# Altium footprint library STMicroelectronics.PcbLib: 3 footprints
Each footprint in its own frame and in the unit in brackets; x right, y up, seen from the top. Pads: shape width x height; smd on the part's side, far side on the other; paste and mask are expansions set on the pad; w line width, h text height; cw(c..) or ccw(c..) is an arc to the next point about the centre after c.
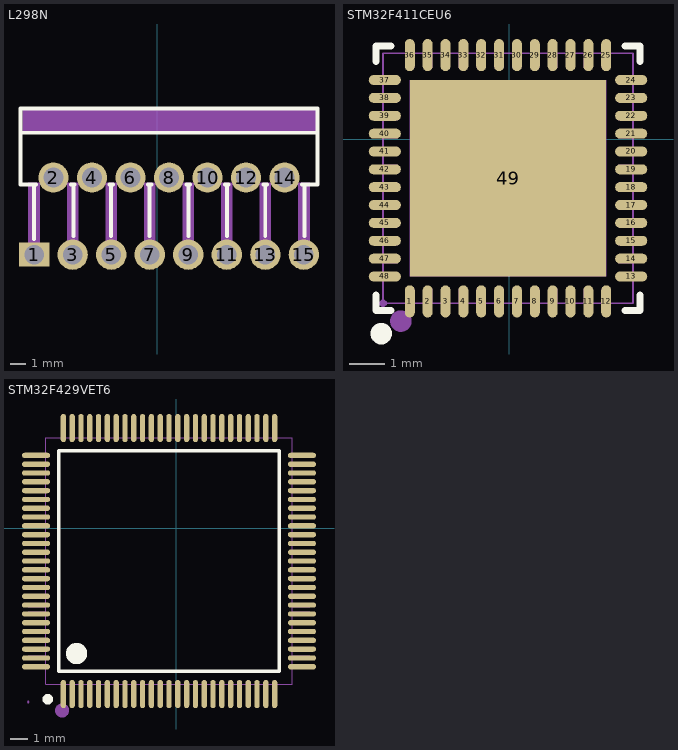
[diagram p0: the footprints below, top view; thin cyan lines are the x and y axes]

## L298N [mm]
pads (15):
  rect 2x1.6 hole 1.3: 1(-8.128,8.89)
  round 2 hole 1.3: 2(-6.858,13.97) 3(-5.588,8.89) 4(-4.318,13.97) 5(-3.048,8.89) 6(-1.778,13.97) 7(-0.508,8.89) 8(0.762,13.97) 9(2.032,8.89) 10(3.302,13.97) 11(4.572,8.89) 12(5.842,13.97) 13(7.112,8.89) 14(8.382,13.97) 15(9.652,8.89)
Top Overlay:
  lines w0.254: -9.038,16.92 10.562,16.92 ; -8.128,9.906 -8.128,13.384 ; -8.004,13.52 -9.038,13.52 -9.038,18.52 10.562,18.52 10.562,13.52 9.528,13.52 ; -5.712,13.52 -5.464,13.52 ; -5.546,10.12 -5.546,13.52 ; -3.172,13.52 -2.924,13.52 ; -3.057,10.12 -3.057,13.52 ; -0.632,13.52 -0.384,13.52 ; -0.517,10.12 -0.517,13.52 ; 1.908,13.52 2.156,13.52 ; 2.049,10.12 2.049,13.52 ; 4.448,13.52 4.696,13.52 ; 4.589,10.12 4.589,13.52 ; 6.988,13.52 7.236,13.52 ; 7.103,10.12 7.103,13.52 ; 9.694,10.12 9.694,13.52
Mechanical 6:
  region: -8.89,18.542 10.541,18.542 10.541,17.018 -8.89,17.018
Mechanical 15:
  region: -8.978,8.63 -8.978,8.655 -9.013,8.69 -9.063,8.69 -9.098,8.655 -9.098,8.63 -9.098,8.605 -9.063,8.57 -9.013,8.57 -8.978,8.605
  region: -8.503,9.15 -7.753,9.15 -7.753,8.63 -8.503,8.63
  region: -7.233,14.23 -6.483,14.23 -6.483,13.71 -7.233,13.71
  region: -5.963,9.15 -5.213,9.15 -5.213,8.63 -5.963,8.63
  region: -4.693,14.23 -3.943,14.23 -3.943,13.71 -4.693,13.71
  region: -3.423,9.15 -2.673,9.15 -2.673,8.63 -3.423,8.63
  region: -2.153,14.23 -1.403,14.23 -1.403,13.71 -2.153,13.71
  region: -0.883,9.15 -0.133,9.15 -0.133,8.63 -0.883,8.63
  region: 0.387,14.23 1.137,14.23 1.137,13.71 0.387,13.71
  region: 1.657,9.15 2.407,9.15 2.407,8.63 1.657,8.63
  region: 2.927,14.23 3.677,14.23 3.677,13.71 2.927,13.71
  region: 4.197,9.15 4.947,9.15 4.947,8.63 4.197,8.63
  region: 5.467,14.23 6.217,14.23 6.217,13.71 5.467,13.71
  region: 6.737,9.15 7.487,9.15 7.487,8.63 6.737,8.63
  region: 8.007,14.23 8.757,14.23 8.757,13.71 8.007,13.71
  region: 9.277,9.15 10.027,9.15 10.027,8.63 9.277,8.63
  region: -8.503,13.63 -7.753,13.63 -7.753,9.03 -8.503,9.03
  region: -5.963,13.63 -5.213,13.63 -5.213,9.03 -5.963,9.03
  region: -3.423,13.63 -2.673,13.63 -2.673,9.03 -3.423,9.03
  region: -0.883,13.63 -0.133,13.63 -0.133,9.03 -0.883,9.03
  region: 1.657,13.63 2.407,13.63 2.407,9.03 1.657,9.03
  region: 4.197,13.63 4.947,13.63 4.947,9.03 4.197,9.03
  region: 6.737,13.63 7.487,13.63 7.487,9.03 6.737,9.03
  region: 9.277,13.63 10.027,13.63 10.027,9.03 9.277,9.03
  lines w0.051: -9.038,13.52 -9.038,18.52 10.562,18.52 10.562,13.52 -9.038,13.52

## STM32F411CEU6 [mm]
pads (49):
  oval 0.28x0.9 smd: 1(-2.789,-4.536) 2(-2.288,-4.536) 3(-1.788,-4.536) 4(-1.287,-4.536) 5(-0.787,-4.536) 6(-0.287,-4.536) 7(0.211,-4.536) 8(0.712,-4.536) 9(1.212,-4.536) 10(1.712,-4.536) 11(2.213,-4.536) 12(2.713,-4.536) 25(2.713,2.362) 26(2.213,2.362) 27(1.712,2.362) 28(1.212,2.362) 29(0.712,2.362) 30(0.211,2.362) 31(-0.287,2.362) 32(-0.787,2.362) 33(-1.287,2.362) 34(-1.788,2.362) 35(-2.288,2.362) 36(-2.789,2.362)
  oval 0.9x0.28 smd: 13(3.412,-3.838) 14(3.412,-3.337) 15(3.412,-2.837) 16(3.412,-2.337) 17(3.412,-1.836) 18(3.412,-1.336) 19(3.412,-0.838) 20(3.412,-0.338) 21(3.412,0.163) 22(3.412,0.663) 23(3.412,1.164) 24(3.412,1.664) 37(-3.487,1.664) 38(-3.487,1.164) 39(-3.487,0.663) 40(-3.487,0.163) 41(-3.487,-0.338) 42(-3.487,-0.838) 43(-3.487,-1.336) 44(-3.487,-1.836) 45(-3.487,-2.337) 46(-3.487,-2.837) 47(-3.487,-3.337) 48(-3.487,-3.838)
  rect 5.5x5.5 smd: 49(-0.038,-1.087)
Top Overlay:
  lines w0.2: -3.738,-4.362 -3.738,-4.787 -3.313,-4.787 ; -3.738,2.188 -3.738,2.613 -3.313,2.613 ; 3.237,-4.787 3.662,-4.787 3.662,-4.362 ; 3.237,2.613 3.662,2.613 3.662,2.188
  lines w0.3: -3.589,-5.288 ccw(c-3.587,-5.438) -3.586,-5.288
Mechanical 6:
  circle w0.3: c-3.038,-5.087 r0.15
Mechanical 15:
  drawing of 54 lines, arcs and shapes, not listed

## STM32F429VET6 [mm]
pads (100):
  oval 0.3x1.6 smd paste-100 mask+0.051: 1(-6.413,-9.407) 2(-5.913,-9.407) 3(-5.413,-9.407) 4(-4.913,-9.407) 5(-4.413,-9.407) 6(-3.913,-9.407) 7(-3.413,-9.407) 8(-2.913,-9.407) 9(-2.413,-9.407) 10(-1.913,-9.407) 11(-1.413,-9.407) 12(-0.913,-9.407) 13(-0.413,-9.407) 14(0.087,-9.407) 15(0.587,-9.407) 16(1.087,-9.407) 17(1.587,-9.407) 18(2.087,-9.407) 19(2.587,-9.407) 20(3.087,-9.407) 21(3.587,-9.407) 22(4.087,-9.407) 23(4.587,-9.407) 24(5.087,-9.407) 25(5.587,-9.407) 51(5.587,5.692) 52(5.087,5.692) 53(4.587,5.692) 54(4.087,5.692) 55(3.587,5.692) 56(3.087,5.692) 57(2.587,5.692) 58(2.087,5.692) 59(1.587,5.692) 60(1.087,5.692) 61(0.587,5.692) 62(0.087,5.692) 63(-0.413,5.692) 64(-0.913,5.692) 65(-1.413,5.692) 66(-1.913,5.692) 67(-2.413,5.692) 68(-2.913,5.692) 69(-3.413,5.692) 70(-3.913,5.692) 71(-4.413,5.692) 72(-4.913,5.692) 73(-5.413,5.692) 74(-5.913,5.692) 75(-6.413,5.692)
  oval 1.6x0.3 smd paste-100 mask+0.051: 26(7.137,-7.857) 27(7.137,-7.358) 28(7.137,-6.857) 29(7.137,-6.358) 30(7.137,-5.857) 31(7.137,-5.358) 32(7.137,-4.857) 33(7.137,-4.358) 34(7.137,-3.857) 35(7.137,-3.358) 36(7.137,-2.857) 37(7.137,-2.357) 38(7.137,-1.858) 39(7.137,-1.357) 40(7.137,-0.858) 41(7.137,-0.357) 42(7.137,0.142) 43(7.137,0.643) 44(7.137,1.142) 45(7.137,1.643) 46(7.137,2.142) 47(7.137,2.643) 48(7.137,3.142) 49(7.137,3.643) 50(7.137,4.142) 76(-7.963,4.142) 77(-7.963,3.643) 78(-7.963,3.142) 79(-7.963,2.643) 80(-7.963,2.142) 81(-7.963,1.643) 82(-7.963,1.142) 83(-7.963,0.643) 84(-7.963,0.142) 85(-7.963,-0.357) 86(-7.963,-0.858) 87(-7.963,-1.357) 88(-7.963,-1.858) 89(-7.963,-2.357) 90(-7.963,-2.857) 91(-7.963,-3.358) 92(-7.963,-3.857) 93(-7.963,-4.358) 94(-7.963,-4.857) 95(-7.963,-5.358) 96(-7.963,-5.857) 97(-7.963,-6.358) 98(-7.963,-6.857) 99(-7.963,-7.358) 100(-7.963,-7.857)
Top Overlay:
  lines w0.2: -6.663,-8.108 5.837,-8.108 5.837,4.392 -6.663,4.392 -6.663,-8.108
  lines w0.3: -7.297,-9.554 ccw(c-7.295,-9.704) -7.294,-9.554
  lines w0.6: -5.663,-6.808 ccw(c-5.661,-7.108) -5.658,-6.808
Top Paste:
  drawing of 100 lines, arcs and shapes, not listed
Mechanical 6:
  circle w0.4: c-6.484,-10.341 r0.2
Mechanical 15:
  drawing of 205 lines, arcs and shapes, not listed